# EAGLE library part 24VL024HT/SN (library Memory)
IC EEPROM 2K I2C 400KHZ 8SOIC Manufacturer's datasheet <http://ww1.microchip.com/downloads/en/DeviceDoc/22109A.pdf>
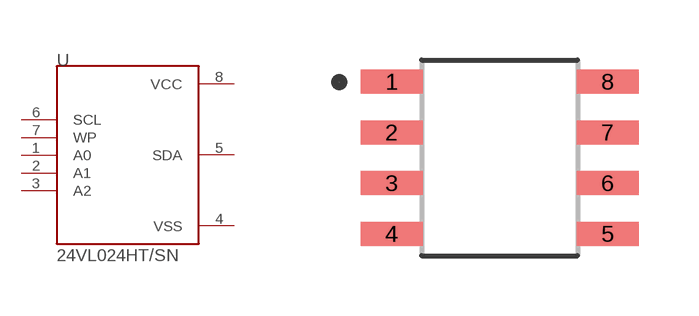
[diagram p10: symbol with the pads of SOIC8; footprint SOIC8]

Designator prefix U

## 24VL024HT/SN (CREATED_BY: PCBLayout.com; DIGIKEY_PARTNO: 24VL024HT/SNTR-ND; MANUFACTURER: Microchip Technology; MPN: 24VL024HT/SN; PACKAGE: SOIC-8)  [SOIC8]
1  A0  in
2  A1  in
3  A2  in
4  VSS  pwr
5  SDA
6  SCL  in
7  WP  in
8  VCC  pwr

## Footprint SOIC8 (pad centres in mm)
smd 1.55 x 0.6: 1 -2.7,1.905; 2 -2.7,0.635; 3 -2.7,-0.635; 4 -2.7,-1.905; 5 2.7,-1.905; 6 2.7,-0.635; 7 2.7,0.635; 8 2.7,1.905